# EAGLE library part LMR54406DBVR (library LMR54406DBVR)
Switching Voltage Regulators SIMPLE SWITCHER power converter 4.5-V to 36-V, 0.6-A, synchronous buck with 80-uA IQ Source: Datasheet <https://www.ti.com/lit/ds/symlink/lmr54406.pdf?ts=1659688249350&ref_url=https%3A%2F%2Fwww.ti.com%2Fproduct%2FLMR54406%2Fpart-details%2FLMR54406DBVR>
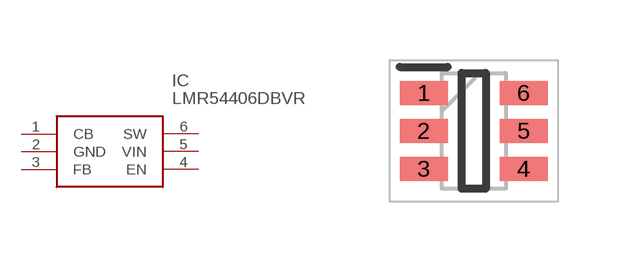
[diagram p0: symbol with the pads of SOT95P280X145-6N; footprint SOT95P280X145-6N]

Designator prefix IC

## LMR54406DBVR (Description: Switching Voltage Regulators SIMPLE SWITCHER power converter 4.5-V to 36-V, 0.6-A, synchronous buck with 80-uA IQ; Height: 1.45mm; Manufacturer_Name: Texas Instruments; Manufacturer_Part_Number: LMR54406DBVR; Mouser_Part_Number: 595-LMR54406DBVR; Mouser_Price-Stock: https://www.mouser.co.uk/ProductDetail/Texas-Instruments/LMR54406DBVR?qs=rSMjJ%252B1ewcQLNU8KVBwgHQ%3D%3D)  [SOT95P280X145-6N]
1  CB
2  GND
3  FB
4  EN
5  VIN
6  SW

## Footprint SOT95P280X145-6N (pad centres in mm)
DBV0006A
smd 1.2 x 0.6: 1 -1.25,0.95; 2 -1.25,0; 3 -1.25,-0.95; 4 1.25,-0.95; 5 1.25,0; 6 1.25,0.95